# Altium footprint library ACSC56-41SEKWA.PcbLib: 1 footprints
Each footprint in its own frame and in the unit in brackets; x right, y up, seen from the top. Pads: shape width x height; smd on the part's side, far side on the other; paste and mask are expansions set on the pad; w line width, h text height; cw(c..) or ccw(c..) is an arc to the next point about the centre after c.
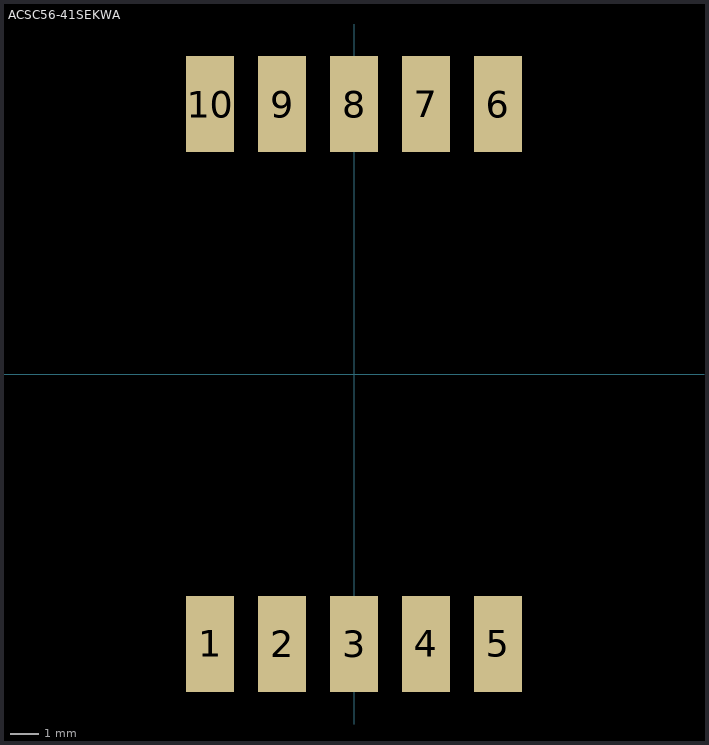
[diagram p0: the footprint, top view; thin cyan lines are the x and y axes]

## ACSC56-41SEKWA [mm]
pads (10):
  rect 1.7x3.4 / inner round 0 / far side round 0 all layers, no hole: 1(-5.08,-9.525) 2(-2.54,-9.525) 3(0,-9.525) 4(2.54,-9.525) 5(5.08,-9.525) 6(5.08,9.525) 7(2.54,9.525) 8(0,9.525) 9(-2.54,9.525) 10(-5.08,9.525)
3D body "ACSX56-41.STEP": height 3.75, standoff -0.05, extent -6.2,-9.5 6.2,9.5